# EAGLE library part PINHD-1X19 (library pinhead)
PIN HEADER
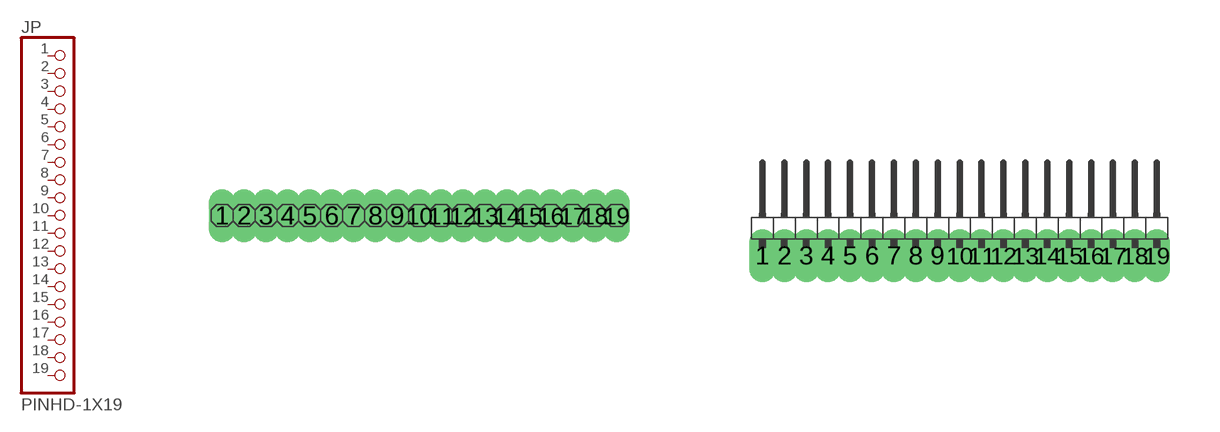
[diagram p13: symbol with the pads of 1X19; footprints 1X19, 1X19/90]

Designator prefix JP

## PINHD-1X19  [1X19]
1  1  pas
2  2  pas
3  3  pas
4  4  pas
5  5  pas
6  6  pas
7  7  pas
8  8  pas
9  9  pas
10  10  pas
11  11  pas
12  12  pas
13  13  pas
14  14  pas
15  15  pas
16  16  pas
17  17  pas
18  18  pas
19  19  pas

## PINHD-1X19/90  [1X19/90]
Pads as for 1X19

## Footprint 1X19 (pad centres in mm)
PIN HEADER
drill 0.254 long: 1 -5.715,0; 2 -5.08,0; 3 -4.445,0; 4 -3.81,0; 5 -3.175,0; 6 -2.54,0; 7 -1.905,0; 8 -1.27,0; 9 -0.635,0; 10 0,0; 11 0.635,0; 12 1.27,0; 13 1.905,0; 14 2.54,0; 15 3.175,0; 16 3.81,0; 17 4.445,0; 18 5.08,0; 19 5.715,0

## Footprint 1X19/90 (pad centres in mm)
PIN HEADER
drill 0.254 long: 1 -5.715,-0.953; 2 -5.08,-0.953; 3 -4.445,-0.953; 4 -3.81,-0.953; 5 -3.175,-0.953; 6 -2.54,-0.953; 7 -1.905,-0.953; 8 -1.27,-0.953; 9 -0.635,-0.953; 10 0,-0.953; 11 0.635,-0.953; 12 1.27,-0.953; 13 1.905,-0.953; 14 2.54,-0.953; 15 3.175,-0.953; 16 3.81,-0.953; 17 4.445,-0.953; 18 5.08,-0.953; 19 5.715,-0.953